# Altium schematic symbol library SPM6530T.SchLib: 2 symbols
Pins are listed as number, name and electrical type; pins without a type are passive.

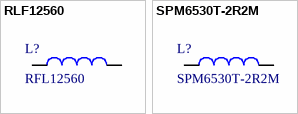
[diagram p0: symbols RLF12560 to SPM6530T-2R2M]

## RLF12560
designator L?, comment RFL12560
footprint RLF12560
pins: 1, 2

## SPM6530T-2R2M
designator L?
2.2μH ±20% at 100kHz
footprint SPM6530
pins: 1, 2